# Altium schematic symbol library TLC04CD.SchLib: 2 symbols
Pins are listed as number, name and electrical type; pins without a type are passive.

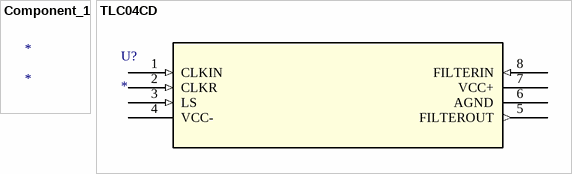
[diagram p0: symbols Component_1 to TLC04CD]

## Component_1
designator *

## TLC04CD
designator U?
No Description Available; Mfr_Name: Texas Instruments; RefDes: RefDes; Type: Type
footprint D8
pins: 1 CLKIN (in), 2 CLKR (in), 3 LS (in), 4 VCC- (power), 5 FILTEROUT (out), 6 AGND (power), 7 VCC+ (power), 8 FILTERIN (in)